# Altium footprint library Connector_Dsub.PcbLib: 104 footprints (part 6 of 7)
Each footprint in its own frame and in the unit in brackets; x right, y up, seen from the top. Pads: shape width x height; smd on the part's side, far side on the other; paste and mask are expansions set on the pad; w line width, h text height; cw(c..) or ccw(c..) is an arc to the next point about the centre after c.
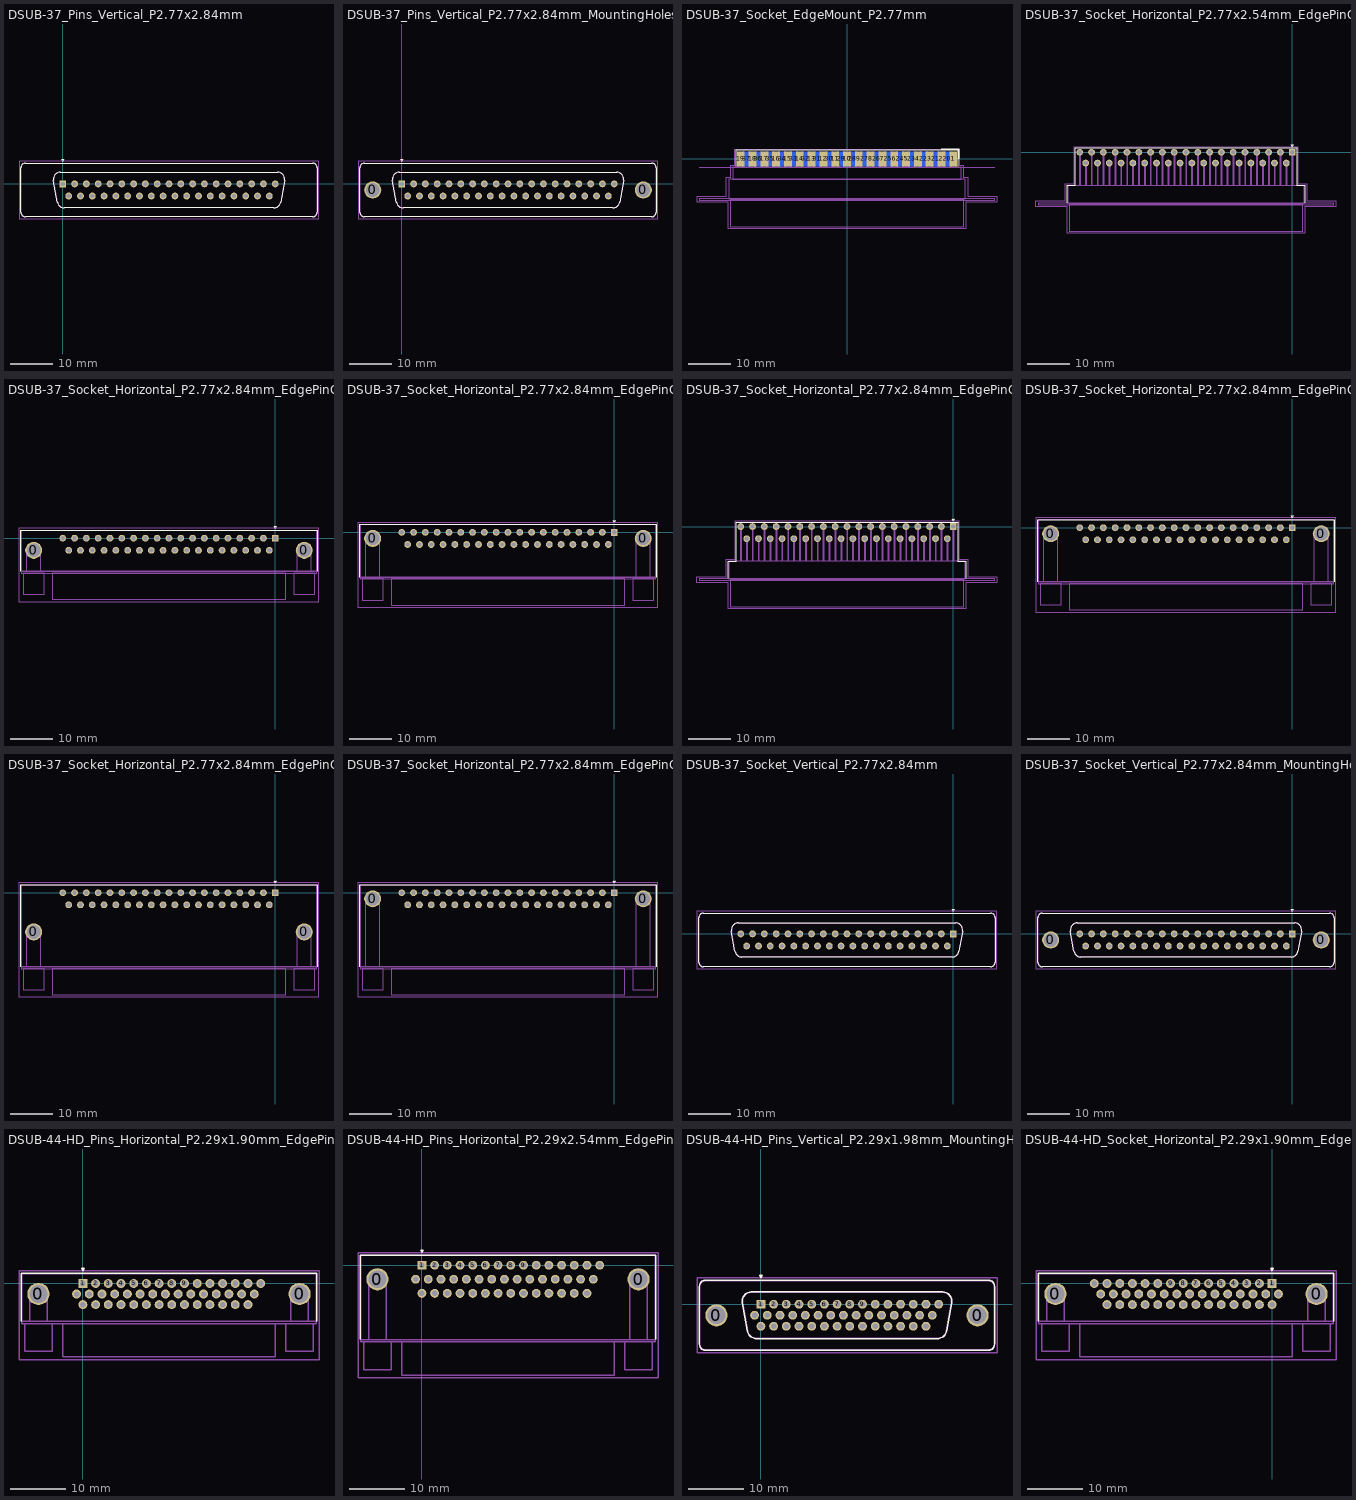
[diagram p5: the footprints below, top view; thin cyan lines are the x and y axes]

## DSUB-37_Pins_Vertical_P2.77x2.84mm [mm]
pads (37):
  rect 1.6x1.6 hole 1: 1(0,0)
  round 1.6 hole 1: 2(2.77,0) 3(5.54,0) 4(8.31,0) 5(11.08,0) 6(13.85,0) 7(16.62,0) 8(19.39,0) 9(22.16,0) 10(24.93,0) 11(27.7,0) 12(30.47,0) 13(33.24,0) 14(36.01,0) 15(38.78,0) 16(41.55,0) 17(44.32,0) 18(47.09,0) 19(49.86,0) 20(1.385,-2.84) 21(4.155,-2.84) 22(6.925,-2.84) 23(9.695,-2.84) 24(12.465,-2.84) 25(15.235,-2.84) 26(18.005,-2.84) 27(20.775,-2.84) 28(23.545,-2.84) 29(26.315,-2.84) 30(29.085,-2.84) 31(31.855,-2.84) 32(34.625,-2.84) 33(37.395,-2.84) 34(40.165,-2.84) 35(42.935,-2.84) 36(45.705,-2.84) 37(48.475,-2.84)
F.SilkS:
  lines w0.254: -9.83,-6.67 -9.83,3.83 cw(c-8.77,3.83) -8.77,4.89 58.63,4.89 cw(c58.63,3.83) 59.69,3.83 59.69,-6.67 cw(c58.63,-6.67) 58.63,-7.73 -8.77,-7.73 cw(c-8.77,-6.67) -9.83,-6.67 ; -2.186,0.842 -1.287,-4.258 ccw(c0.348,-3.97) 0.348,-5.63 49.512,-5.63 ccw(c49.512,-3.97) 51.147,-4.258 52.046,0.842 ccw(c50.412,1.13) 50.412,2.79 -0.552,2.79 ccw(c-0.552,1.13) -2.186,0.842 ; -0.25,5.784 0.25,5.784 0,5.351 -0.25,5.784
F.Fab:
  lines w0.254: -9.77,-6.67 -9.77,3.83 cw(c-8.77,3.83) -8.77,4.83 58.63,4.83 cw(c58.63,3.83) 59.63,3.83 59.63,-6.67 cw(c58.63,-6.67) 58.63,-7.67 -8.77,-7.67 cw(c-8.77,-6.67) -9.77,-6.67 ; -2.139,0.852 -1.24,-4.248 ccw(c0.336,-3.97) 0.336,-5.57 49.524,-5.57 ccw(c49.524,-3.97) 51.1,-4.248 51.999,0.852 ccw(c50.423,1.13) 50.423,2.73 -0.563,2.73 ccw(c-0.563,1.13) -2.139,0.852
  text "'.Designator'" at 20.883,-2.26 h1
F.CrtYd:
  lines w0.254: -10.28,-8.17 -10.28,5.33 60.13,5.33 60.13,-8.17 -10.28,-8.17

## DSUB-37_Pins_Vertical_P2.77x2.84mm_MountingHoles [mm]
pads (39):
  round 4 hole 3.2: 0(-6.82,-1.42) 0(56.68,-1.42)
  rect 1.6x1.6 hole 1: 1(0,0)
  round 1.6 hole 1: 2(2.77,0) 3(5.54,0) 4(8.31,0) 5(11.08,0) 6(13.85,0) 7(16.62,0) 8(19.39,0) 9(22.16,0) 10(24.93,0) 11(27.7,0) 12(30.47,0) 13(33.24,0) 14(36.01,0) 15(38.78,0) 16(41.55,0) 17(44.32,0) 18(47.09,0) 19(49.86,0) 20(1.385,-2.84) 21(4.155,-2.84) 22(6.925,-2.84) 23(9.695,-2.84) 24(12.465,-2.84) 25(15.235,-2.84) 26(18.005,-2.84) 27(20.775,-2.84) 28(23.545,-2.84) 29(26.315,-2.84) 30(29.085,-2.84) 31(31.855,-2.84) 32(34.625,-2.84) 33(37.395,-2.84) 34(40.165,-2.84) 35(42.935,-2.84) 36(45.705,-2.84) 37(48.475,-2.84)
F.SilkS:
  lines w0.254: -9.83,-6.67 -9.83,3.83 cw(c-8.77,3.83) -8.77,4.89 58.63,4.89 cw(c58.63,3.83) 59.69,3.83 59.69,-6.67 cw(c58.63,-6.67) 58.63,-7.73 -8.77,-7.73 cw(c-8.77,-6.67) -9.83,-6.67 ; -2.186,0.842 -1.287,-4.258 ccw(c0.348,-3.97) 0.348,-5.63 49.512,-5.63 ccw(c49.512,-3.97) 51.147,-4.258 52.046,0.842 ccw(c50.412,1.13) 50.412,2.79 -0.552,2.79 ccw(c-0.552,1.13) -2.186,0.842 ; -0.25,5.784 0.25,5.784 0,5.351 -0.25,5.784
F.Fab:
  lines w0.254: -9.77,-6.67 -9.77,3.83 cw(c-8.77,3.83) -8.77,4.83 58.63,4.83 cw(c58.63,3.83) 59.63,3.83 59.63,-6.67 cw(c58.63,-6.67) 58.63,-7.67 -8.77,-7.67 cw(c-8.77,-6.67) -9.77,-6.67 ; -2.139,0.852 -1.24,-4.248 ccw(c0.336,-3.97) 0.336,-5.57 49.524,-5.57 ccw(c49.524,-3.97) 51.1,-4.248 51.999,0.852 ccw(c50.423,1.13) 50.423,2.73 -0.563,2.73 ccw(c-0.563,1.13) -2.139,0.852
  text "'.Designator'" at 20.883,-2.26 h1
F.CrtYd:
  lines w0.254: -10.28,-8.17 -10.28,5.33 60.13,5.33 60.13,-8.17 -10.28,-8.17

## DSUB-37_Socket_EdgeMount_P2.77mm [mm]
pads (37):
  rect 1.847x3.48 smd: 1(24.93,0) 2(22.16,0) 3(19.39,0) 4(16.62,0) 5(13.85,0) 6(11.08,0) 7(8.31,0) 8(5.54,0) 9(2.77,0) 10(0,0) 11(-2.77,0) 12(-5.54,0) 13(-8.31,0) 14(-11.08,0) 15(-13.85,0) 16(-16.62,0) 17(-19.39,0) 18(-22.16,0) 19(-24.93,0)
  rect 1.847x3.48 smd far side: 20(23.545,0) 21(20.775,0) 22(18.005,0) 23(15.235,0) 24(12.465,0) 25(9.695,0) 26(6.925,0) 27(4.155,0) 28(1.385,0) 29(-1.385,0) 30(-4.155,0) 31(-6.925,0) 32(-9.695,0) 33(-12.465,0) 34(-15.235,0) 35(-18.005,0) 36(-20.775,0) 37(-23.545,0)
F.SilkS:
  lines w0.254: -26.113,-1.74 -26.113,2 26.113,2 26.113,-1.74 ; 22.16,2.24 26.353,2.24 26.353,0
F.Fab:
  lines w0.254: -34.7,-9.69 -34.7,-9.29 34.7,-9.29 34.7,-9.69 -34.7,-9.69 ; -27.8,-9.29 -27.8,-4.79 27.8,-4.79 27.8,-9.29 -27.8,-9.29 ; -27.4,-15.86 -27.4,-9.69 27.4,-9.69 27.4,-15.86 -27.4,-15.86 ; -26.8,-4.79 -26.8,-1.99 26.8,-1.99 26.8,-4.79 -26.8,-4.79 ; -25.53,-1.99 -25.53,0.91 -24.33,0.91 -24.33,-1.99 -25.53,-1.99 ; -22.76,-1.99 -22.76,0.91 -21.56,0.91 -21.56,-1.99 -22.76,-1.99 ; -19.99,-1.99 -19.99,0.91 -18.79,0.91 -18.79,-1.99 -19.99,-1.99 ; -17.22,-1.99 -17.22,0.91 -16.02,0.91 -16.02,-1.99 -17.22,-1.99 ; -14.45,-1.99 -14.45,0.91 -13.25,0.91 -13.25,-1.99 -14.45,-1.99 ; -11.68,-1.99 -11.68,0.91 -10.48,0.91 -10.48,-1.99 -11.68,-1.99 ; -8.91,-1.99 -8.91,0.91 -7.71,0.91 -7.71,-1.99 -8.91,-1.99 ; -6.14,-1.99 -6.14,0.91 -4.94,0.91 -4.94,-1.99 -6.14,-1.99 ; -3.37,-1.99 -3.37,0.91 -2.17,0.91 -2.17,-1.99 -3.37,-1.99 ; -0.6,-1.99 -0.6,0.91 0.6,0.91 0.6,-1.99 -0.6,-1.99 ; 2.17,-1.99 2.17,0.91 3.37,0.91 3.37,-1.99 2.17,-1.99 ; 4.94,-1.99 4.94,0.91 6.14,0.91 6.14,-1.99 4.94,-1.99 ; 7.71,-1.99 7.71,0.91 8.91,0.91 8.91,-1.99 7.71,-1.99 ; 10.48,-1.99 10.48,0.91 11.68,0.91 11.68,-1.99 10.48,-1.99 ; 13.25,-1.99 13.25,0.91 14.45,0.91 14.45,-1.99 13.25,-1.99 ; 16.02,-1.99 16.02,0.91 17.22,0.91 17.22,-1.99 16.02,-1.99 ; 18.79,-1.99 18.79,0.91 19.99,0.91 19.99,-1.99 18.79,-1.99 ; 21.56,-1.99 21.56,0.91 22.76,0.91 22.76,-1.99 21.56,-1.99 ; 24.33,-1.99 24.33,0.91 25.53,0.91 25.53,-1.99 24.33,-1.99
  text "'.Designator'" at -4.047,-4.23 h1
B.Fab:
  lines w0.254: -24.145,-1.99 -24.145,0.91 -22.945,0.91 -22.945,-1.99 -24.145,-1.99 ; -21.375,-1.99 -21.375,0.91 -20.175,0.91 -20.175,-1.99 -21.375,-1.99 ; -18.605,-1.99 -18.605,0.91 -17.405,0.91 -17.405,-1.99 -18.605,-1.99 ; -15.835,-1.99 -15.835,0.91 -14.635,0.91 -14.635,-1.99 -15.835,-1.99 ; -13.065,-1.99 -13.065,0.91 -11.865,0.91 -11.865,-1.99 -13.065,-1.99 ; -10.295,-1.99 -10.295,0.91 -9.095,0.91 -9.095,-1.99 -10.295,-1.99 ; -7.525,-1.99 -7.525,0.91 -6.325,0.91 -6.325,-1.99 -7.525,-1.99 ; -4.755,-1.99 -4.755,0.91 -3.555,0.91 -3.555,-1.99 -4.755,-1.99 ; -1.985,-1.99 -1.985,0.91 -0.785,0.91 -0.785,-1.99 -1.985,-1.99 ; 0.785,-1.99 0.785,0.91 1.985,0.91 1.985,-1.99 0.785,-1.99 ; 3.555,-1.99 3.555,0.91 4.755,0.91 4.755,-1.99 3.555,-1.99 ; 6.325,-1.99 6.325,0.91 7.525,0.91 7.525,-1.99 6.325,-1.99 ; 9.095,-1.99 9.095,0.91 10.295,0.91 10.295,-1.99 9.095,-1.99 ; 11.865,-1.99 11.865,0.91 13.065,0.91 13.065,-1.99 11.865,-1.99 ; 14.635,-1.99 14.635,0.91 15.835,0.91 15.835,-1.99 14.635,-1.99 ; 17.405,-1.99 17.405,0.91 18.605,0.91 18.605,-1.99 17.405,-1.99 ; 20.175,-1.99 20.175,0.91 21.375,0.91 21.375,-1.99 20.175,-1.99 ; 22.945,-1.99 22.945,0.91 24.145,0.91 24.145,-1.99 22.945,-1.99
F.CrtYd:
  lines w0.254: -35.2,-10.19 -35.2,-8.79 -28.3,-8.79 -28.3,-4.29 -27.3,-4.29 -27.3,-1.49 -26.36,-1.49 -26.36,2.25 26.36,2.25 26.36,-1.49 27.3,-1.49 27.3,-4.29 28.3,-4.29 28.3,-8.79 35.2,-8.79 35.2,-10.19 27.9,-10.19 27.9,-16.36 -27.9,-16.36 -27.9,-10.19 -35.2,-10.19
Dwgs.User:
  lines w0.254: -34.7,-1.99 34.7,-1.99
  text "PCB edge" at -31.423,-1.732 h0.5

## DSUB-37_Socket_Horizontal_P2.77x2.54mm_EdgePinOffset9.40mm [mm]
pads (37):
  rect 1.6x1.6 hole 1: 1(0,0)
  round 1.6 hole 1: 2(-2.77,0) 3(-5.54,0) 4(-8.31,0) 5(-11.08,0) 6(-13.85,0) 7(-16.62,0) 8(-19.39,0) 9(-22.16,0) 10(-24.93,0) 11(-27.7,0) 12(-30.47,0) 13(-33.24,0) 14(-36.01,0) 15(-38.78,0) 16(-41.55,0) 17(-44.32,0) 18(-47.09,0) 19(-49.86,0) 20(-1.385,-2.54) 21(-4.155,-2.54) 22(-6.925,-2.54) 23(-9.695,-2.54) 24(-12.465,-2.54) 25(-15.235,-2.54) 26(-18.005,-2.54) 27(-20.775,-2.54) 28(-23.545,-2.54) 29(-26.315,-2.54) 30(-29.085,-2.54) 31(-31.855,-2.54) 32(-34.625,-2.54) 33(-37.395,-2.54) 34(-40.165,-2.54) 35(-42.935,-2.54) 36(-45.705,-2.54) 37(-48.475,-2.54)
F.SilkS:
  lines w0.254: -52.79,-11.88 -52.79,-7.78 -50.92,-7.78 -50.92,1.06 1.06,1.06 1.06,-7.78 2.93,-7.78 2.93,-11.88 ; -0.25,1.754 0.25,1.754 0,1.321 -0.25,1.754
F.Fab:
  lines w0.254: -49.96,-7.84 -49.96,0 ; -49.86,-7.84 -49.86,0 ; -49.76,-7.84 -49.76,0 ; -48.575,-7.84 -48.575,-2.54 ; -48.475,-7.84 -48.475,-2.54 ; -48.375,-7.84 -48.375,-2.54 ; -47.19,-7.84 -47.19,0 ; -47.09,-7.84 -47.09,0 ; -46.99,-7.84 -46.99,0 ; -45.805,-7.84 -45.805,-2.54 ; -45.705,-7.84 -45.705,-2.54 ; -45.605,-7.84 -45.605,-2.54 ; -44.42,-7.84 -44.42,0 ; -44.32,-7.84 -44.32,0 ; -44.22,-7.84 -44.22,0 ; -43.035,-7.84 -43.035,-2.54 ; -42.935,-7.84 -42.935,-2.54 ; -42.835,-7.84 -42.835,-2.54 ; -41.65,-7.84 -41.65,0 ; -41.55,-7.84 -41.55,0 ; -41.45,-7.84 -41.45,0 ; -40.265,-7.84 -40.265,-2.54 ; -40.165,-7.84 -40.165,-2.54 ; -40.065,-7.84 -40.065,-2.54 ; -38.88,-7.84 -38.88,0 ; -38.78,-7.84 -38.78,0 ; -38.68,-7.84 -38.68,0 ; -37.495,-7.84 -37.495,-2.54 ; -37.395,-7.84 -37.395,-2.54 ; -37.295,-7.84 -37.295,-2.54 ; -36.11,-7.84 -36.11,0 ; -36.01,-7.84 -36.01,0 ; -35.91,-7.84 -35.91,0 ; -34.725,-7.84 -34.725,-2.54 ; -34.625,-7.84 -34.625,-2.54 ; -34.525,-7.84 -34.525,-2.54 ; -33.34,-7.84 -33.34,0 ; -33.24,-7.84 -33.24,0 ; -33.14,-7.84 -33.14,0 ; -31.955,-7.84 -31.955,-2.54 ; -31.855,-7.84 -31.855,-2.54 ; -31.755,-7.84 -31.755,-2.54 ; -30.57,-7.84 -30.57,0 ; -30.47,-7.84 -30.47,0 ; -30.37,-7.84 -30.37,0 ; -29.185,-7.84 -29.185,-2.54 ; -29.085,-7.84 -29.085,-2.54 ; -28.985,-7.84 -28.985,-2.54 ; -27.8,-7.84 -27.8,0 ; -27.7,-7.84 -27.7,0 ; -27.6,-7.84 -27.6,0 ; -26.415,-7.84 -26.415,-2.54 ; -26.315,-7.84 -26.315,-2.54 ; -26.215,-7.84 -26.215,-2.54 ; -25.03,-7.84 -25.03,0 ; -24.93,-7.84 -24.93,0 ; -24.83,-7.84 -24.83,0 ; -23.645,-7.84 -23.645,-2.54 ; -23.545,-7.84 -23.545,-2.54 ; -23.445,-7.84 -23.445,-2.54 ; -22.26,-7.84 -22.26,0 ; -22.16,-7.84 -22.16,0 ; -22.06,-7.84 -22.06,0 ; -20.875,-7.84 -20.875,-2.54 ; -20.775,-7.84 -20.775,-2.54 ; -20.675,-7.84 -20.675,-2.54 ; -19.49,-7.84 -19.49,0 ; -19.39,-7.84 -19.39,0 ; -19.29,-7.84 -19.29,0 ; -18.105,-7.84 -18.105,-2.54 ; -18.005,-7.84 -18.005,-2.54 ; -17.905,-7.84 -17.905,-2.54 ; -16.72,-7.84 -16.72,0 ; -16.62,-7.84 -16.62,0 ; -16.52,-7.84 -16.52,0 ; -15.335,-7.84 -15.335,-2.54 ; -15.235,-7.84 -15.235,-2.54 ; -15.135,-7.84 -15.135,-2.54 ; -13.95,-7.84 -13.95,0 ; -13.85,-7.84 -13.85,0 ; -13.75,-7.84 -13.75,0 ; -12.565,-7.84 -12.565,-2.54 ; -12.465,-7.84 -12.465,-2.54 ; -12.365,-7.84 -12.365,-2.54 ; -11.18,-7.84 -11.18,0 ; -11.08,-7.84 -11.08,0 ; -10.98,-7.84 -10.98,0 ; -9.795,-7.84 -9.795,-2.54 ; -9.695,-7.84 -9.695,-2.54 ; -9.595,-7.84 -9.595,-2.54 ; -8.41,-7.84 -8.41,0 ; -8.31,-7.84 -8.31,0 ; -8.21,-7.84 -8.21,0 ; -7.025,-7.84 -7.025,-2.54 ; -6.925,-7.84 -6.925,-2.54 ; -6.825,-7.84 -6.825,-2.54 ; -5.64,-7.84 -5.64,0 ; -5.54,-7.84 -5.54,0 ; -5.44,-7.84 -5.44,0 ; -4.255,-7.84 -4.255,-2.54 ; -4.155,-7.84 -4.155,-2.54 ; -4.055,-7.84 -4.055,-2.54 ; -2.87,-7.84 -2.87,0 ; -2.77,-7.84 -2.77,0 ; -2.67,-7.84 -2.67,0 ; -1.485,-7.84 -1.485,-2.54 ; -1.385,-7.84 -1.385,-2.54 ; -1.285,-7.84 -1.285,-2.54 ; -0.1,-7.84 -0.1,0 ; 0,-7.84 0,0 ; 0.1,-7.84 0.1,0 ; -59.63,-12.34 -59.63,-11.94 9.77,-11.94 9.77,-12.34 -59.63,-12.34 ; -52.73,-11.94 -52.73,-7.84 2.87,-7.84 2.87,-11.94 -52.73,-11.94 ; -52.33,-18.51 -52.33,-12.34 2.47,-12.34 2.47,-18.51 -52.33,-18.51
  text "'.Designator'" at -28.977,-16.265 h1
F.CrtYd:
  lines w0.254: -60.13,-12.84 -60.13,-11.44 -53.23,-11.44 -53.23,-7.34 -51.16,-7.34 -51.16,1.31 1.3,1.31 1.3,-7.34 3.37,-7.34 3.37,-11.44 10.28,-11.44 10.28,-12.84 2.97,-12.84 2.97,-19.01 -52.83,-19.01 -52.83,-12.84 -60.13,-12.84

## DSUB-37_Socket_Horizontal_P2.77x2.84mm_EdgePinOffset4.94mm_Housed_MountingHolesOffset4.94mm [mm]
pads (39):
  round 4 hole 3.2: 0(-56.68,-2.84) 0(6.82,-2.84)
  rect 1.6x1.6 hole 1: 1(0,0)
  round 1.6 hole 1: 2(-2.77,0) 3(-5.54,0) 4(-8.31,0) 5(-11.08,0) 6(-13.85,0) 7(-16.62,0) 8(-19.39,0) 9(-22.16,0) 10(-24.93,0) 11(-27.7,0) 12(-30.47,0) 13(-33.24,0) 14(-36.01,0) 15(-38.78,0) 16(-41.55,0) 17(-44.32,0) 18(-47.09,0) 19(-49.86,0) 20(-1.385,-2.84) 21(-4.155,-2.84) 22(-6.925,-2.84) 23(-9.695,-2.84) 24(-12.465,-2.84) 25(-15.235,-2.84) 26(-18.005,-2.84) 27(-20.775,-2.84) 28(-23.545,-2.84) 29(-26.315,-2.84) 30(-29.085,-2.84) 31(-31.855,-2.84) 32(-34.625,-2.84) 33(-37.395,-2.84) 34(-40.165,-2.84) 35(-42.935,-2.84) 36(-45.705,-2.84) 37(-48.475,-2.84)
F.SilkS:
  lines w0.254: -59.69,-7.72 -59.69,1.86 9.83,1.86 9.83,-7.72 ; -0.25,2.754 0.25,2.754 0,2.321 -0.25,2.754
F.Fab:
  lines w0.254: -58.28,-7.78 -58.28,-2.84 cw(c-56.68,-2.84) -55.08,-2.84 -55.08,-7.78 ; 5.22,-7.78 5.22,-2.84 cw(c6.82,-2.84) 8.42,-2.84 8.42,-7.78 ; -59.63,-7.78 -59.63,1.8 9.77,1.8 9.77,-7.78 ; -59.63,-7.78 -59.63,-8.18 9.77,-8.18 9.77,-7.78 ; -59.63,-7.78 9.77,-7.78 ; -59.63,-7.78 9.77,-7.78 ; -59.18,-13.18 -59.18,-8.18 -54.18,-8.18 -54.18,-13.18 -59.18,-13.18 ; -52.33,-14.35 -52.33,-8.18 2.47,-8.18 2.47,-14.35 -52.33,-14.35 ; 4.32,-13.18 4.32,-8.18 9.32,-8.18 9.32,-13.18 4.32,-13.18
  text "'.Designator'" at -28.977,-12.105 h1
F.CrtYd:
  lines w0.254: -60.13,-14.85 -60.13,2.31 10.28,2.31 10.28,-14.85 -60.13,-14.85

## DSUB-37_Socket_Horizontal_P2.77x2.84mm_EdgePinOffset7.70mm_Housed_MountingHolesOffset9.12mm [mm]
pads (39):
  round 4 hole 3.2: 0(-56.68,-1.42) 0(6.82,-1.42)
  rect 1.6x1.6 hole 1: 1(0,0)
  round 1.6 hole 1: 2(-2.77,0) 3(-5.54,0) 4(-8.31,0) 5(-11.08,0) 6(-13.85,0) 7(-16.62,0) 8(-19.39,0) 9(-22.16,0) 10(-24.93,0) 11(-27.7,0) 12(-30.47,0) 13(-33.24,0) 14(-36.01,0) 15(-38.78,0) 16(-41.55,0) 17(-44.32,0) 18(-47.09,0) 19(-49.86,0) 20(-1.385,-2.84) 21(-4.155,-2.84) 22(-6.925,-2.84) 23(-9.695,-2.84) 24(-12.465,-2.84) 25(-15.235,-2.84) 26(-18.005,-2.84) 27(-20.775,-2.84) 28(-23.545,-2.84) 29(-26.315,-2.84) 30(-29.085,-2.84) 31(-31.855,-2.84) 32(-34.625,-2.84) 33(-37.395,-2.84) 34(-40.165,-2.84) 35(-42.935,-2.84) 36(-45.705,-2.84) 37(-48.475,-2.84)
F.SilkS:
  lines w0.254: -59.69,-10.48 -59.69,1.86 9.83,1.86 9.83,-10.48 ; -0.25,2.754 0.25,2.754 0,2.321 -0.25,2.754
F.Fab:
  lines w0.254: -58.28,-10.54 -58.28,-1.42 cw(c-56.68,-1.42) -55.08,-1.42 -55.08,-10.54 ; 5.22,-10.54 5.22,-1.42 cw(c6.82,-1.42) 8.42,-1.42 8.42,-10.54 ; -59.63,-10.54 -59.63,1.8 9.77,1.8 9.77,-10.54 ; -59.63,-10.54 -59.63,-10.94 9.77,-10.94 9.77,-10.54 ; -59.63,-10.54 9.77,-10.54 ; -59.63,-10.54 9.77,-10.54 ; -59.18,-15.94 -59.18,-10.94 -54.18,-10.94 -54.18,-15.94 -59.18,-15.94 ; -52.33,-17.11 -52.33,-10.94 2.47,-10.94 2.47,-17.11 -52.33,-17.11 ; 4.32,-15.94 4.32,-10.94 9.32,-10.94 9.32,-15.94 4.32,-15.94
  text "'.Designator'" at -28.977,-14.865 h1
F.CrtYd:
  lines w0.254: -60.13,-17.61 -60.13,2.31 10.28,2.31 10.28,-17.61 -60.13,-17.61

## DSUB-37_Socket_Horizontal_P2.77x2.84mm_EdgePinOffset9.40mm [mm]
pads (37):
  rect 1.6x1.6 hole 1: 1(0,0)
  round 1.6 hole 1: 2(-2.77,0) 3(-5.54,0) 4(-8.31,0) 5(-11.08,0) 6(-13.85,0) 7(-16.62,0) 8(-19.39,0) 9(-22.16,0) 10(-24.93,0) 11(-27.7,0) 12(-30.47,0) 13(-33.24,0) 14(-36.01,0) 15(-38.78,0) 16(-41.55,0) 17(-44.32,0) 18(-47.09,0) 19(-49.86,0) 20(-1.385,-2.84) 21(-4.155,-2.84) 22(-6.925,-2.84) 23(-9.695,-2.84) 24(-12.465,-2.84) 25(-15.235,-2.84) 26(-18.005,-2.84) 27(-20.775,-2.84) 28(-23.545,-2.84) 29(-26.315,-2.84) 30(-29.085,-2.84) 31(-31.855,-2.84) 32(-34.625,-2.84) 33(-37.395,-2.84) 34(-40.165,-2.84) 35(-42.935,-2.84) 36(-45.705,-2.84) 37(-48.475,-2.84)
F.SilkS:
  lines w0.254: -52.79,-12.18 -52.79,-8.08 -50.92,-8.08 -50.92,1.06 1.06,1.06 1.06,-8.08 2.93,-8.08 2.93,-12.18 ; -0.25,1.754 0.25,1.754 0,1.321 -0.25,1.754
F.Fab:
  lines w0.254: -49.96,-8.14 -49.96,0 ; -49.86,-8.14 -49.86,0 ; -49.76,-8.14 -49.76,0 ; -48.575,-8.14 -48.575,-2.84 ; -48.475,-8.14 -48.475,-2.84 ; -48.375,-8.14 -48.375,-2.84 ; -47.19,-8.14 -47.19,0 ; -47.09,-8.14 -47.09,0 ; -46.99,-8.14 -46.99,0 ; -45.805,-8.14 -45.805,-2.84 ; -45.705,-8.14 -45.705,-2.84 ; -45.605,-8.14 -45.605,-2.84 ; -44.42,-8.14 -44.42,0 ; -44.32,-8.14 -44.32,0 ; -44.22,-8.14 -44.22,0 ; -43.035,-8.14 -43.035,-2.84 ; -42.935,-8.14 -42.935,-2.84 ; -42.835,-8.14 -42.835,-2.84 ; -41.65,-8.14 -41.65,0 ; -41.55,-8.14 -41.55,0 ; -41.45,-8.14 -41.45,0 ; -40.265,-8.14 -40.265,-2.84 ; -40.165,-8.14 -40.165,-2.84 ; -40.065,-8.14 -40.065,-2.84 ; -38.88,-8.14 -38.88,0 ; -38.78,-8.14 -38.78,0 ; -38.68,-8.14 -38.68,0 ; -37.495,-8.14 -37.495,-2.84 ; -37.395,-8.14 -37.395,-2.84 ; -37.295,-8.14 -37.295,-2.84 ; -36.11,-8.14 -36.11,0 ; -36.01,-8.14 -36.01,0 ; -35.91,-8.14 -35.91,0 ; -34.725,-8.14 -34.725,-2.84 ; -34.625,-8.14 -34.625,-2.84 ; -34.525,-8.14 -34.525,-2.84 ; -33.34,-8.14 -33.34,0 ; -33.24,-8.14 -33.24,0 ; -33.14,-8.14 -33.14,0 ; -31.955,-8.14 -31.955,-2.84 ; -31.855,-8.14 -31.855,-2.84 ; -31.755,-8.14 -31.755,-2.84 ; -30.57,-8.14 -30.57,0 ; -30.47,-8.14 -30.47,0 ; -30.37,-8.14 -30.37,0 ; -29.185,-8.14 -29.185,-2.84 ; -29.085,-8.14 -29.085,-2.84 ; -28.985,-8.14 -28.985,-2.84 ; -27.8,-8.14 -27.8,0 ; -27.7,-8.14 -27.7,0 ; -27.6,-8.14 -27.6,0 ; -26.415,-8.14 -26.415,-2.84 ; -26.315,-8.14 -26.315,-2.84 ; -26.215,-8.14 -26.215,-2.84 ; -25.03,-8.14 -25.03,0 ; -24.93,-8.14 -24.93,0 ; -24.83,-8.14 -24.83,0 ; -23.645,-8.14 -23.645,-2.84 ; -23.545,-8.14 -23.545,-2.84 ; -23.445,-8.14 -23.445,-2.84 ; -22.26,-8.14 -22.26,0 ; -22.16,-8.14 -22.16,0 ; -22.06,-8.14 -22.06,0 ; -20.875,-8.14 -20.875,-2.84 ; -20.775,-8.14 -20.775,-2.84 ; -20.675,-8.14 -20.675,-2.84 ; -19.49,-8.14 -19.49,0 ; -19.39,-8.14 -19.39,0 ; -19.29,-8.14 -19.29,0 ; -18.105,-8.14 -18.105,-2.84 ; -18.005,-8.14 -18.005,-2.84 ; -17.905,-8.14 -17.905,-2.84 ; -16.72,-8.14 -16.72,0 ; -16.62,-8.14 -16.62,0 ; -16.52,-8.14 -16.52,0 ; -15.335,-8.14 -15.335,-2.84 ; -15.235,-8.14 -15.235,-2.84 ; -15.135,-8.14 -15.135,-2.84 ; -13.95,-8.14 -13.95,0 ; -13.85,-8.14 -13.85,0 ; -13.75,-8.14 -13.75,0 ; -12.565,-8.14 -12.565,-2.84 ; -12.465,-8.14 -12.465,-2.84 ; -12.365,-8.14 -12.365,-2.84 ; -11.18,-8.14 -11.18,0 ; -11.08,-8.14 -11.08,0 ; -10.98,-8.14 -10.98,0 ; -9.795,-8.14 -9.795,-2.84 ; -9.695,-8.14 -9.695,-2.84 ; -9.595,-8.14 -9.595,-2.84 ; -8.41,-8.14 -8.41,0 ; -8.31,-8.14 -8.31,0 ; -8.21,-8.14 -8.21,0 ; -7.025,-8.14 -7.025,-2.84 ; -6.925,-8.14 -6.925,-2.84 ; -6.825,-8.14 -6.825,-2.84 ; -5.64,-8.14 -5.64,0 ; -5.54,-8.14 -5.54,0 ; -5.44,-8.14 -5.44,0 ; -4.255,-8.14 -4.255,-2.84 ; -4.155,-8.14 -4.155,-2.84 ; -4.055,-8.14 -4.055,-2.84 ; -2.87,-8.14 -2.87,0 ; -2.77,-8.14 -2.77,0 ; -2.67,-8.14 -2.67,0 ; -1.485,-8.14 -1.485,-2.84 ; -1.385,-8.14 -1.385,-2.84 ; -1.285,-8.14 -1.285,-2.84 ; -0.1,-8.14 -0.1,0 ; 0,-8.14 0,0 ; 0.1,-8.14 0.1,0 ; -59.63,-12.64 -59.63,-12.24 9.77,-12.24 9.77,-12.64 -59.63,-12.64 ; -52.73,-12.24 -52.73,-8.14 2.87,-8.14 2.87,-12.24 -52.73,-12.24 ; -52.33,-18.81 -52.33,-12.64 2.47,-12.64 2.47,-18.81 -52.33,-18.81
  text "'.Designator'" at -28.977,-16.565 h1
F.CrtYd:
  lines w0.254: -60.13,-13.14 -60.13,-11.74 -53.23,-11.74 -53.23,-7.64 -51.16,-7.64 -51.16,1.31 1.3,1.31 1.3,-7.64 3.37,-7.64 3.37,-11.74 10.28,-11.74 10.28,-13.14 2.97,-13.14 2.97,-19.32 -52.83,-19.32 -52.83,-13.14 -60.13,-13.14

## DSUB-37_Socket_Horizontal_P2.77x2.84mm_EdgePinOffset9.90mm_Housed_MountingHolesOffset11.32mm [mm]
pads (39):
  round 4 hole 3.2: 0(-56.68,-1.42) 0(6.82,-1.42)
  rect 1.6x1.6 hole 1: 1(0,0)
  round 1.6 hole 1: 2(-2.77,0) 3(-5.54,0) 4(-8.31,0) 5(-11.08,0) 6(-13.85,0) 7(-16.62,0) 8(-19.39,0) 9(-22.16,0) 10(-24.93,0) 11(-27.7,0) 12(-30.47,0) 13(-33.24,0) 14(-36.01,0) 15(-38.78,0) 16(-41.55,0) 17(-44.32,0) 18(-47.09,0) 19(-49.86,0) 20(-1.385,-2.84) 21(-4.155,-2.84) 22(-6.925,-2.84) 23(-9.695,-2.84) 24(-12.465,-2.84) 25(-15.235,-2.84) 26(-18.005,-2.84) 27(-20.775,-2.84) 28(-23.545,-2.84) 29(-26.315,-2.84) 30(-29.085,-2.84) 31(-31.855,-2.84) 32(-34.625,-2.84) 33(-37.395,-2.84) 34(-40.165,-2.84) 35(-42.935,-2.84) 36(-45.705,-2.84) 37(-48.475,-2.84)
F.SilkS:
  lines w0.254: -59.69,-12.68 -59.69,1.86 9.83,1.86 9.83,-12.68 ; -0.25,2.754 0.25,2.754 0,2.321 -0.25,2.754
F.Fab:
  lines w0.254: -58.28,-12.74 -58.28,-1.42 cw(c-56.68,-1.42) -55.08,-1.42 -55.08,-12.74 ; 5.22,-12.74 5.22,-1.42 cw(c6.82,-1.42) 8.42,-1.42 8.42,-12.74 ; -59.63,-12.74 -59.63,1.8 9.77,1.8 9.77,-12.74 ; -59.63,-12.74 -59.63,-13.14 9.77,-13.14 9.77,-12.74 ; -59.63,-12.74 9.77,-12.74 ; -59.63,-12.74 9.77,-12.74 ; -59.18,-18.14 -59.18,-13.14 -54.18,-13.14 -54.18,-18.14 -59.18,-18.14 ; -52.33,-19.31 -52.33,-13.14 2.47,-13.14 2.47,-19.31 -52.33,-19.31 ; 4.32,-18.14 4.32,-13.14 9.32,-13.14 9.32,-18.14 4.32,-18.14
  text "'.Designator'" at -28.977,-17.065 h1
F.CrtYd:
  lines w0.254: -60.13,-19.81 -60.13,2.31 10.28,2.31 10.28,-19.81 -60.13,-19.81

## DSUB-37_Socket_Horizontal_P2.77x2.84mm_EdgePinOffset14.56mm_Housed_MountingHolesOffset8.20mm [mm]
pads (39):
  round 4 hole 3.2: 0(-56.68,-9.2) 0(6.82,-9.2)
  rect 1.6x1.6 hole 1: 1(0,0)
  round 1.6 hole 1: 2(-2.77,0) 3(-5.54,0) 4(-8.31,0) 5(-11.08,0) 6(-13.85,0) 7(-16.62,0) 8(-19.39,0) 9(-22.16,0) 10(-24.93,0) 11(-27.7,0) 12(-30.47,0) 13(-33.24,0) 14(-36.01,0) 15(-38.78,0) 16(-41.55,0) 17(-44.32,0) 18(-47.09,0) 19(-49.86,0) 20(-1.385,-2.84) 21(-4.155,-2.84) 22(-6.925,-2.84) 23(-9.695,-2.84) 24(-12.465,-2.84) 25(-15.235,-2.84) 26(-18.005,-2.84) 27(-20.775,-2.84) 28(-23.545,-2.84) 29(-26.315,-2.84) 30(-29.085,-2.84) 31(-31.855,-2.84) 32(-34.625,-2.84) 33(-37.395,-2.84) 34(-40.165,-2.84) 35(-42.935,-2.84) 36(-45.705,-2.84) 37(-48.475,-2.84)
F.SilkS:
  lines w0.254: -59.69,-17.34 -59.69,1.86 9.83,1.86 9.83,-17.34 ; -0.25,2.754 0.25,2.754 0,2.321 -0.25,2.754
F.Fab:
  lines w0.254: -58.28,-17.4 -58.28,-9.2 cw(c-56.68,-9.2) -55.08,-9.2 -55.08,-17.4 ; 5.22,-17.4 5.22,-9.2 cw(c6.82,-9.2) 8.42,-9.2 8.42,-17.4 ; -59.63,-17.4 -59.63,1.8 9.77,1.8 9.77,-17.4 ; -59.63,-17.4 -59.63,-17.8 9.77,-17.8 9.77,-17.4 ; -59.63,-17.4 9.77,-17.4 ; -59.63,-17.4 9.77,-17.4 ; -59.18,-22.8 -59.18,-17.8 -54.18,-17.8 -54.18,-22.8 -59.18,-22.8 ; -52.33,-23.97 -52.33,-17.8 2.47,-17.8 2.47,-23.97 -52.33,-23.97 ; 4.32,-22.8 4.32,-17.8 9.32,-17.8 9.32,-22.8 4.32,-22.8
  text "'.Designator'" at -28.977,-21.725 h1
F.CrtYd:
  lines w0.254: -60.13,-24.47 -60.13,2.3 10.28,2.3 10.28,-24.47 -60.13,-24.47

## DSUB-37_Socket_Horizontal_P2.77x2.84mm_EdgePinOffset14.56mm_Housed_MountingHolesOffset15.98mm [mm]
pads (39):
  round 4 hole 3.2: 0(-56.68,-1.42) 0(6.82,-1.42)
  rect 1.6x1.6 hole 1: 1(0,0)
  round 1.6 hole 1: 2(-2.77,0) 3(-5.54,0) 4(-8.31,0) 5(-11.08,0) 6(-13.85,0) 7(-16.62,0) 8(-19.39,0) 9(-22.16,0) 10(-24.93,0) 11(-27.7,0) 12(-30.47,0) 13(-33.24,0) 14(-36.01,0) 15(-38.78,0) 16(-41.55,0) 17(-44.32,0) 18(-47.09,0) 19(-49.86,0) 20(-1.385,-2.84) 21(-4.155,-2.84) 22(-6.925,-2.84) 23(-9.695,-2.84) 24(-12.465,-2.84) 25(-15.235,-2.84) 26(-18.005,-2.84) 27(-20.775,-2.84) 28(-23.545,-2.84) 29(-26.315,-2.84) 30(-29.085,-2.84) 31(-31.855,-2.84) 32(-34.625,-2.84) 33(-37.395,-2.84) 34(-40.165,-2.84) 35(-42.935,-2.84) 36(-45.705,-2.84) 37(-48.475,-2.84)
F.SilkS:
  lines w0.254: -59.69,-17.34 -59.69,1.86 9.83,1.86 9.83,-17.34 ; -0.25,2.754 0.25,2.754 0,2.321 -0.25,2.754
F.Fab:
  lines w0.254: -58.28,-17.4 -58.28,-1.42 cw(c-56.68,-1.42) -55.08,-1.42 -55.08,-17.4 ; 5.22,-17.4 5.22,-1.42 cw(c6.82,-1.42) 8.42,-1.42 8.42,-17.4 ; -59.63,-17.4 -59.63,1.8 9.77,1.8 9.77,-17.4 ; -59.63,-17.4 -59.63,-17.8 9.77,-17.8 9.77,-17.4 ; -59.63,-17.4 9.77,-17.4 ; -59.63,-17.4 9.77,-17.4 ; -59.18,-22.8 -59.18,-17.8 -54.18,-17.8 -54.18,-22.8 -59.18,-22.8 ; -52.33,-23.97 -52.33,-17.8 2.47,-17.8 2.47,-23.97 -52.33,-23.97 ; 4.32,-22.8 4.32,-17.8 9.32,-17.8 9.32,-22.8 4.32,-22.8
  text "'.Designator'" at -28.977,-21.725 h1
F.CrtYd:
  lines w0.254: -60.13,-24.47 -60.13,2.3 10.28,2.3 10.28,-24.47 -60.13,-24.47

## DSUB-37_Socket_Vertical_P2.77x2.84mm [mm]
pads (37):
  rect 1.6x1.6 hole 1: 1(0,0)
  round 1.6 hole 1: 2(-2.77,0) 3(-5.54,0) 4(-8.31,0) 5(-11.08,0) 6(-13.85,0) 7(-16.62,0) 8(-19.39,0) 9(-22.16,0) 10(-24.93,0) 11(-27.7,0) 12(-30.47,0) 13(-33.24,0) 14(-36.01,0) 15(-38.78,0) 16(-41.55,0) 17(-44.32,0) 18(-47.09,0) 19(-49.86,0) 20(-1.385,-2.84) 21(-4.155,-2.84) 22(-6.925,-2.84) 23(-9.695,-2.84) 24(-12.465,-2.84) 25(-15.235,-2.84) 26(-18.005,-2.84) 27(-20.775,-2.84) 28(-23.545,-2.84) 29(-26.315,-2.84) 30(-29.085,-2.84) 31(-31.855,-2.84) 32(-34.625,-2.84) 33(-37.395,-2.84) 34(-40.165,-2.84) 35(-42.935,-2.84) 36(-45.705,-2.84) 37(-48.475,-2.84)
F.SilkS:
  lines w0.254: -59.69,-6.67 -59.69,3.83 cw(c-58.63,3.83) -58.63,4.89 8.77,4.89 cw(c8.77,3.83) 9.83,3.83 9.83,-6.67 cw(c8.77,-6.67) 8.77,-7.73 -58.63,-7.73 cw(c-58.63,-6.67) -59.69,-6.67 ; -52.046,0.642 -51.218,-4.058 ccw(c-49.583,-3.77) -49.583,-5.43 -0.277,-5.43 ccw(c-0.277,-3.77) 1.358,-4.058 2.186,0.642 ccw(c0.552,0.93) 0.552,2.59 -50.412,2.59 ccw(c-50.412,0.93) -52.046,0.642 ; -0.25,5.784 0.25,5.784 0,5.351 -0.25,5.784
F.Fab:
  lines w0.254: -59.63,-6.67 -59.63,3.83 cw(c-58.63,3.83) -58.63,4.83 8.77,4.83 cw(c8.77,3.83) 9.77,3.83 9.77,-6.67 cw(c8.77,-6.67) 8.77,-7.67 -58.63,-7.67 cw(c-58.63,-6.67) -59.63,-6.67 ; -51.999,0.652 -51.17,-4.048 ccw(c-49.594,-3.77) -49.594,-5.37 -0.266,-5.37 ccw(c-0.266,-3.77) 1.31,-4.048 2.139,0.652 ccw(c0.563,0.93) 0.563,2.53 -50.423,2.53 ccw(c-50.423,0.93) -51.999,0.652
  text "'.Designator'" at -28.977,-2.26 h1
F.CrtYd:
  lines w0.254: -60.13,-8.17 -60.13,5.33 10.28,5.33 10.28,-8.17 -60.13,-8.17

## DSUB-37_Socket_Vertical_P2.77x2.84mm_MountingHoles [mm]
pads (39):
  round 4 hole 3.2: 0(-56.68,-1.42) 0(6.82,-1.42)
  rect 1.6x1.6 hole 1: 1(0,0)
  round 1.6 hole 1: 2(-2.77,0) 3(-5.54,0) 4(-8.31,0) 5(-11.08,0) 6(-13.85,0) 7(-16.62,0) 8(-19.39,0) 9(-22.16,0) 10(-24.93,0) 11(-27.7,0) 12(-30.47,0) 13(-33.24,0) 14(-36.01,0) 15(-38.78,0) 16(-41.55,0) 17(-44.32,0) 18(-47.09,0) 19(-49.86,0) 20(-1.385,-2.84) 21(-4.155,-2.84) 22(-6.925,-2.84) 23(-9.695,-2.84) 24(-12.465,-2.84) 25(-15.235,-2.84) 26(-18.005,-2.84) 27(-20.775,-2.84) 28(-23.545,-2.84) 29(-26.315,-2.84) 30(-29.085,-2.84) 31(-31.855,-2.84) 32(-34.625,-2.84) 33(-37.395,-2.84) 34(-40.165,-2.84) 35(-42.935,-2.84) 36(-45.705,-2.84) 37(-48.475,-2.84)
F.SilkS:
  lines w0.254: -59.69,-6.67 -59.69,3.83 cw(c-58.63,3.83) -58.63,4.89 8.77,4.89 cw(c8.77,3.83) 9.83,3.83 9.83,-6.67 cw(c8.77,-6.67) 8.77,-7.73 -58.63,-7.73 cw(c-58.63,-6.67) -59.69,-6.67 ; -52.046,0.642 -51.218,-4.058 ccw(c-49.583,-3.77) -49.583,-5.43 -0.277,-5.43 ccw(c-0.277,-3.77) 1.358,-4.058 2.186,0.642 ccw(c0.552,0.93) 0.552,2.59 -50.412,2.59 ccw(c-50.412,0.93) -52.046,0.642 ; -0.25,5.784 0.25,5.784 0,5.351 -0.25,5.784
F.Fab:
  lines w0.254: -59.63,-6.67 -59.63,3.83 cw(c-58.63,3.83) -58.63,4.83 8.77,4.83 cw(c8.77,3.83) 9.77,3.83 9.77,-6.67 cw(c8.77,-6.67) 8.77,-7.67 -58.63,-7.67 cw(c-58.63,-6.67) -59.63,-6.67 ; -51.999,0.652 -51.17,-4.048 ccw(c-49.594,-3.77) -49.594,-5.37 -0.266,-5.37 ccw(c-0.266,-3.77) 1.31,-4.048 2.139,0.652 ccw(c0.563,0.93) 0.563,2.53 -50.423,2.53 ccw(c-50.423,0.93) -51.999,0.652
  text "'.Designator'" at -28.977,-2.26 h1
F.CrtYd:
  lines w0.254: -60.13,-8.17 -60.13,5.33 10.28,5.33 10.28,-8.17 -60.13,-8.17

## DSUB-44-HD_Pins_Horizontal_P2.29x1.90mm_EdgePinOffset3.03mm_Housed_MountingHolesOffset4.94mm [mm]
pads (46):
  round 4 hole 3.2: 0(-8.025,-1.89) 0(39.075,-1.89)
  rect 1.6x1.6 hole 1: 1(0,0)
  round 1.6 hole 1: 2(2.29,0) 3(4.58,0) 4(6.87,0) 5(9.16,0) 6(11.45,0) 7(13.74,0) 8(16.03,0) 9(18.32,0) 10(20.61,0) 11(22.9,0) 12(25.19,0) 13(27.48,0) 14(29.77,0) 15(32.06,0) 16(-1.145,-1.9) 17(1.145,-1.9) 18(3.435,-1.9) 19(5.725,-1.9) 20(8.015,-1.9) 21(10.305,-1.9) 22(12.595,-1.9) 23(14.885,-1.9) 24(17.175,-1.9) 25(19.465,-1.9) 26(21.755,-1.9) 27(24.045,-1.9) 28(26.335,-1.9) 29(28.625,-1.9) 30(30.915,-1.9) 31(0,-3.8) 32(2.29,-3.8) 33(4.58,-3.8) 34(6.87,-3.8) 35(9.16,-3.8) 36(11.45,-3.8) 37(13.74,-3.8) 38(16.03,-3.8) 39(18.32,-3.8) 40(20.61,-3.8) 41(22.9,-3.8) 42(25.19,-3.8) 43(27.48,-3.8) 44(29.77,-3.8)
F.SilkS:
  lines w0.254: -11.085,-6.77 -11.085,1.83 42.135,1.83 42.135,-6.77 ; -0.25,2.724 0.25,2.724 0,2.291 -0.25,2.724
F.Fab:
  lines w0.254: -9.625,-6.83 -9.625,-1.89 cw(c-8.025,-1.89) -6.425,-1.89 -6.425,-6.83 ; 37.475,-6.83 37.475,-1.89 cw(c39.075,-1.89) 40.675,-1.89 40.675,-6.83 ; -11.025,-6.83 -11.025,1.77 42.075,1.77 42.075,-6.83 ; -11.025,-6.83 -11.025,-7.23 42.075,-7.23 42.075,-6.83 ; -11.025,-6.83 42.075,-6.83 ; -11.025,-6.83 42.075,-6.83 ; -10.525,-12.23 -10.525,-7.23 -5.525,-7.23 -5.525,-12.23 -10.525,-12.23 ; -3.625,-13.23 -3.625,-7.23 34.675,-7.23 34.675,-13.23 -3.625,-13.23 ; 36.575,-12.23 36.575,-7.23 41.575,-7.23 41.575,-12.23 36.575,-12.23
  text "'.Designator'" at 11.478,-11.07 h1
F.CrtYd:
  lines w0.254: -11.53,-13.73 -11.53,2.27 42.58,2.27 42.58,-13.73 -11.53,-13.73

## DSUB-44-HD_Pins_Horizontal_P2.29x2.54mm_EdgePinOffset8.35mm_Housed_MountingHolesOffset10.89mm [mm]
pads (46):
  round 4 hole 3.2: 0(-8.025,-2.54) 0(39.075,-2.54)
  rect 1.6x1.6 hole 1: 1(0,0)
  round 1.6 hole 1: 2(2.29,0) 3(4.58,0) 4(6.87,0) 5(9.16,0) 6(11.45,0) 7(13.74,0) 8(16.03,0) 9(18.32,0) 10(20.61,0) 11(22.9,0) 12(25.19,0) 13(27.48,0) 14(29.77,0) 15(32.06,0) 16(-1.145,-2.54) 17(1.145,-2.54) 18(3.435,-2.54) 19(5.725,-2.54) 20(8.015,-2.54) 21(10.305,-2.54) 22(12.595,-2.54) 23(14.885,-2.54) 24(17.175,-2.54) 25(19.465,-2.54) 26(21.755,-2.54) 27(24.045,-2.54) 28(26.335,-2.54) 29(28.625,-2.54) 30(30.915,-2.54) 31(0,-5.08) 32(2.29,-5.08) 33(4.58,-5.08) 34(6.87,-5.08) 35(9.16,-5.08) 36(11.45,-5.08) 37(13.74,-5.08) 38(16.03,-5.08) 39(18.32,-5.08) 40(20.61,-5.08) 41(22.9,-5.08) 42(25.19,-5.08) 43(27.48,-5.08) 44(29.77,-5.08)
F.SilkS:
  lines w0.254: -11.085,-13.37 -11.085,1.83 42.135,1.83 42.135,-13.37 ; -0.25,2.724 0.25,2.724 0,2.291 -0.25,2.724
F.Fab:
  lines w0.254: -9.625,-13.43 -9.625,-2.54 cw(c-8.025,-2.54) -6.425,-2.54 -6.425,-13.43 ; 37.475,-13.43 37.475,-2.54 cw(c39.075,-2.54) 40.675,-2.54 40.675,-13.43 ; -11.025,-13.43 -11.025,1.77 42.075,1.77 42.075,-13.43 ; -11.025,-13.43 -11.025,-13.83 42.075,-13.83 42.075,-13.43 ; -11.025,-13.43 42.075,-13.43 ; -11.025,-13.43 42.075,-13.43 ; -10.525,-18.83 -10.525,-13.83 -5.525,-13.83 -5.525,-18.83 -10.525,-18.83 ; -3.625,-19.83 -3.625,-13.83 34.675,-13.83 34.675,-19.83 -3.625,-19.83 ; 36.575,-18.83 36.575,-13.83 41.575,-13.83 41.575,-18.83 36.575,-18.83
  text "'.Designator'" at 11.478,-17.67 h1
F.CrtYd:
  lines w0.254: -11.53,-20.33 -11.53,2.27 42.58,2.27 42.58,-20.33 -11.53,-20.33

## DSUB-44-HD_Pins_Vertical_P2.29x1.98mm_MountingHoles [mm]
pads (46):
  round 4 hole 3.2: 0(-8.025,-1.98) 0(39.075,-1.98)
  rect 1.6x1.6 hole 1: 1(0,0)
  round 1.6 hole 1: 2(2.29,0) 3(4.58,0) 4(6.87,0) 5(9.16,0) 6(11.45,0) 7(13.74,0) 8(16.03,0) 9(18.32,0) 10(20.61,0) 11(22.9,0) 12(25.19,0) 13(27.48,0) 14(29.77,0) 15(32.06,0) 16(-1.145,-1.98) 17(1.145,-1.98) 18(3.435,-1.98) 19(5.725,-1.98) 20(8.015,-1.98) 21(10.305,-1.98) 22(12.595,-1.98) 23(14.885,-1.98) 24(17.175,-1.98) 25(19.465,-1.98) 26(21.755,-1.98) 27(24.045,-1.98) 28(26.335,-1.98) 29(28.625,-1.98) 30(30.915,-1.98) 31(0,-3.96) 32(2.29,-3.96) 33(4.58,-3.96) 34(6.87,-3.96) 35(9.16,-3.96) 36(11.45,-3.96) 37(13.74,-3.96) 38(16.03,-3.96) 39(18.32,-3.96) 40(20.61,-3.96) 41(22.9,-3.96) 42(25.19,-3.96) 43(27.48,-3.96) 44(29.77,-3.96)
F.SilkS:
  lines w0.254: -11.085,-7.23 -11.085,3.27 cw(c-10.025,3.27) -10.025,4.33 41.075,4.33 cw(c41.075,3.27) 42.135,3.27 42.135,-7.23 cw(c41.075,-7.23) 41.075,-8.29 -10.025,-8.29 cw(c-10.025,-7.23) -11.085,-7.23 ; -3.341,0.282 -2.442,-4.818 ccw(c-0.807,-4.53) -0.807,-6.19 31.857,-6.19 ccw(c31.857,-4.53) 33.492,-4.818 34.391,0.282 ccw(c32.757,0.57) 32.757,2.23 -1.707,2.23 ccw(c-1.707,0.57) -3.341,0.282 ; -0.25,5.224 0.25,5.224 0,4.791 -0.25,5.224
F.Fab:
  lines w0.254: -11.025,-7.23 -11.025,3.27 cw(c-10.025,3.27) -10.025,4.27 41.075,4.27 cw(c41.075,3.27) 42.075,3.27 42.075,-7.23 cw(c41.075,-7.23) 41.075,-8.23 -10.025,-8.23 cw(c-10.025,-7.23) -11.025,-7.23 ; -3.294,0.292 -2.395,-4.808 ccw(c-0.819,-4.53) -0.819,-6.13 31.869,-6.13 ccw(c31.869,-4.53) 33.445,-4.808 34.344,0.292 ccw(c32.768,0.57) 32.768,2.17 -1.718,2.17 ccw(c-1.718,0.57) -3.294,0.292
  text "'.Designator'" at 11.478,-2.82 h1
F.CrtYd:
  lines w0.254: -11.53,-8.73 -11.53,4.77 42.58,4.77 42.58,-8.73 -11.53,-8.73

## DSUB-44-HD_Socket_Horizontal_P2.29x1.90mm_EdgePinOffset3.03mm_Housed_MountingHolesOffset4.94mm [mm]
pads (46):
  round 4 hole 3.2: 0(-39.075,-1.89) 0(8.025,-1.89)
  rect 1.6x1.6 hole 1: 1(0,0)
  round 1.6 hole 1: 2(-2.29,0) 3(-4.58,0) 4(-6.87,0) 5(-9.16,0) 6(-11.45,0) 7(-13.74,0) 8(-16.03,0) 9(-18.32,0) 10(-20.61,0) 11(-22.9,0) 12(-25.19,0) 13(-27.48,0) 14(-29.77,0) 15(-32.06,0) 16(1.145,-1.9) 17(-1.145,-1.9) 18(-3.435,-1.9) 19(-5.725,-1.9) 20(-8.015,-1.9) 21(-10.305,-1.9) 22(-12.595,-1.9) 23(-14.885,-1.9) 24(-17.175,-1.9) 25(-19.465,-1.9) 26(-21.755,-1.9) 27(-24.045,-1.9) 28(-26.335,-1.9) 29(-28.625,-1.9) 30(-30.915,-1.9) 31(0,-3.8) 32(-2.29,-3.8) 33(-4.58,-3.8) 34(-6.87,-3.8) 35(-9.16,-3.8) 36(-11.45,-3.8) 37(-13.74,-3.8) 38(-16.03,-3.8) 39(-18.32,-3.8) 40(-20.61,-3.8) 41(-22.9,-3.8) 42(-25.19,-3.8) 43(-27.48,-3.8) 44(-29.77,-3.8)
F.SilkS:
  lines w0.254: -42.135,-6.77 -42.135,1.83 11.085,1.83 11.085,-6.77 ; -0.25,2.724 0.25,2.724 0,2.291 -0.25,2.724
F.Fab:
  lines w0.254: -40.675,-6.83 -40.675,-1.89 cw(c-39.075,-1.89) -37.475,-1.89 -37.475,-6.83 ; 6.425,-6.83 6.425,-1.89 cw(c8.025,-1.89) 9.625,-1.89 9.625,-6.83 ; -42.075,-6.83 -42.075,1.77 11.025,1.77 11.025,-6.83 ; -42.075,-6.83 -42.075,-7.23 11.025,-7.23 11.025,-6.83 ; -42.075,-6.83 11.025,-6.83 ; -42.075,-6.83 11.025,-6.83 ; -41.575,-12.23 -41.575,-7.23 -36.575,-7.23 -36.575,-12.23 -41.575,-12.23 ; -34.675,-13.23 -34.675,-7.23 3.625,-7.23 3.625,-13.23 -34.675,-13.23 ; 5.525,-12.23 5.525,-7.23 10.525,-7.23 10.525,-12.23 5.525,-12.23
  text "'.Designator'" at -19.572,-11.07 h1
F.CrtYd:
  lines w0.254: -42.58,-13.73 -42.58,2.27 11.53,2.27 11.53,-13.73 -42.58,-13.73